# Altium footprint library CAP.PCBLIB: 47 footprints (part 1 of 3)
Each footprint in its own frame and in the unit in brackets; x right, y up, seen from the top. Pads: shape width x height; smd on the part's side, far side on the other; paste and mask are expansions set on the pad; w line width, h text height; cw(c..) or ccw(c..) is an arc to the next point about the centre after c.
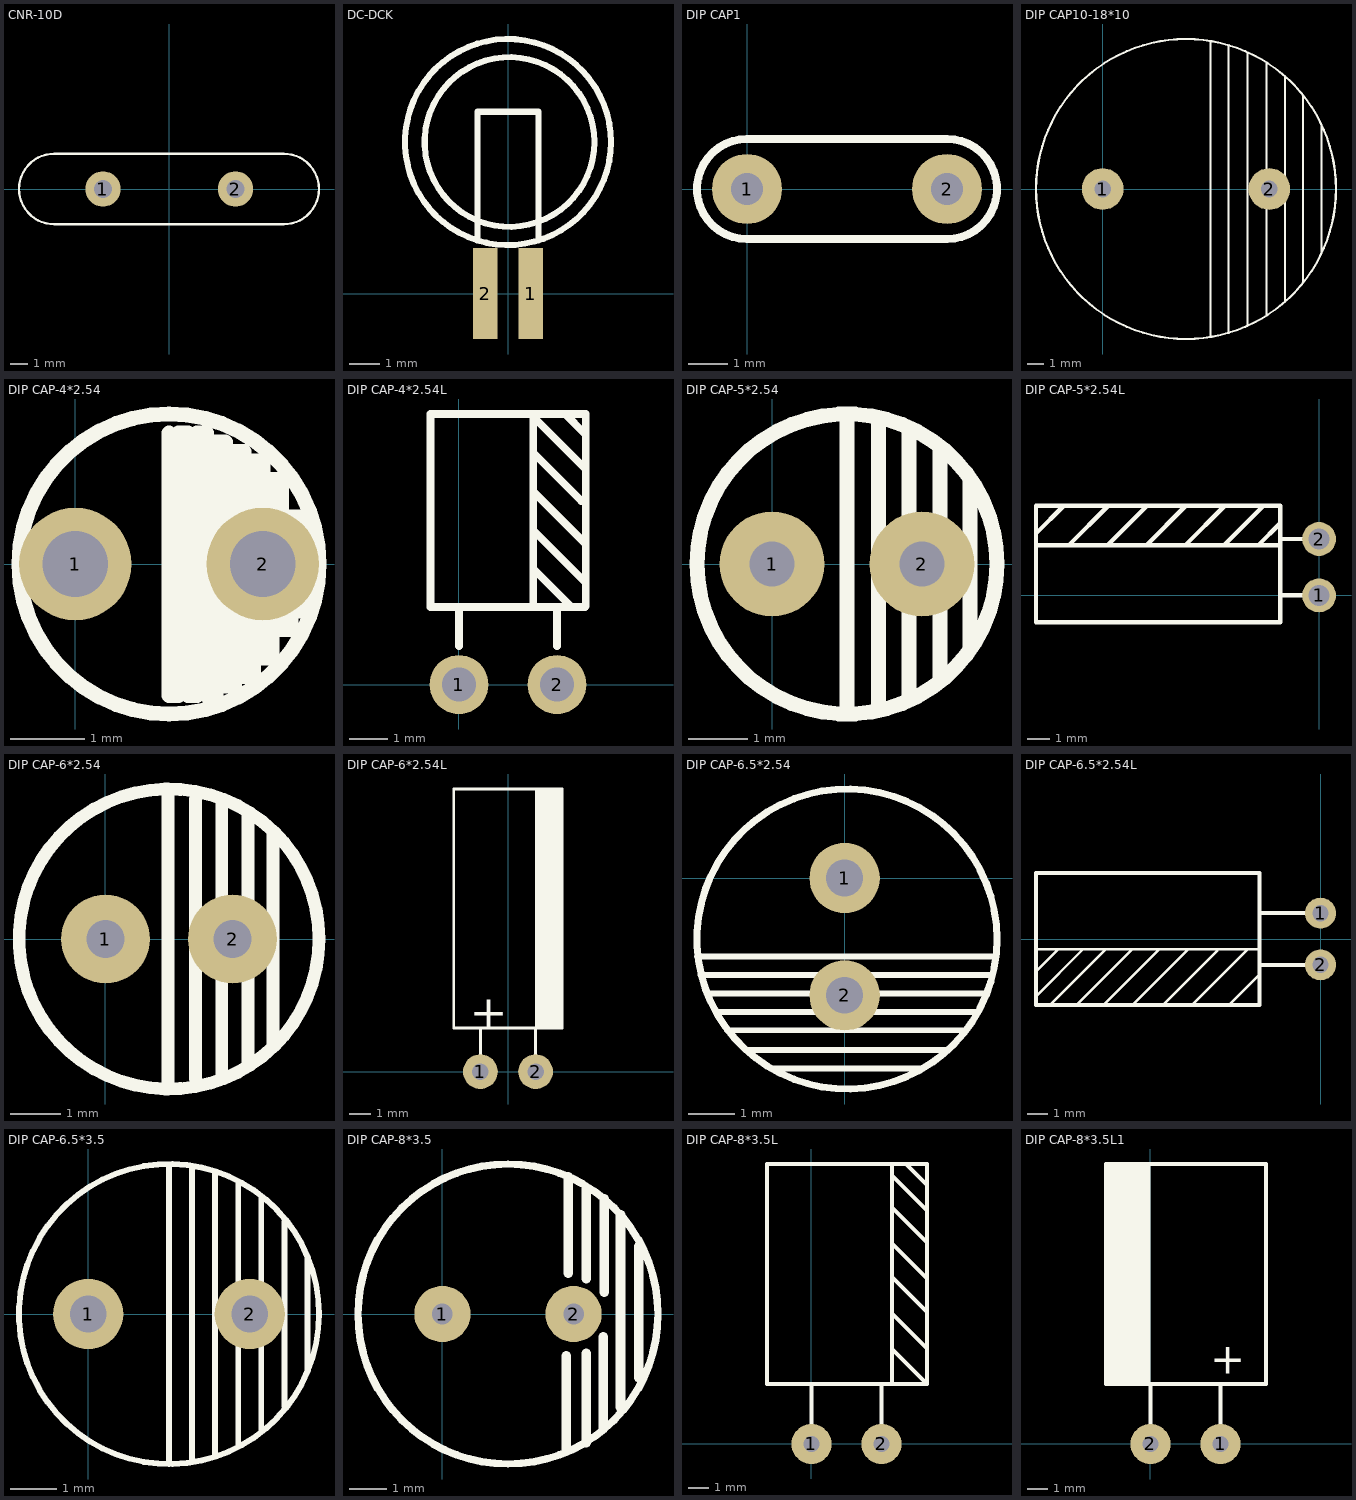
[diagram p0: the footprints below, top view; thin cyan lines are the x and y axes]

## CNR-10D [mm]
pads (2):
  round 2 hole 1: 1(-3.75,0) 2(3.75,0)
TopOverlay:
  lines w0.127: 6.475,-2 ccw(c6.475,0) 6.475,2 ; 6.5,-2 -6.5,-2 cw(c-6.5,0) -6.5,2 6.5,2

## DC-DCK [mm]
pads (2):
  rect 0.8x3 smd: 1(0.75,0) 2(-0.75,0)
TopOverlay:
  circle w0.2: c0.05,5 r2.8
  circle w0.2: c0,5 r3.4
  lines w0.2: -1,1.75 -1,6 1,6 1,1.75

## DIP CAP1 [mil]
pads (2):
  round 70 hole 32: 1(0,0) 2(200,0)
TopOverlay:
  lines w8: 0,-50 cw(c0,0) 0,50 200,50 cw(c200,0) 200,-50 0,-50

## DIP CAP10-18*10 [mm]
pads (2):
  round 2.5 hole 1: 1(0,0) 2(10,0)
TopOverlay:
  circle w0.127: c5,0 r9
  lines w0.127: 6.472,-8.871 6.472,8.871 ; 7.547,-8.622 7.547,8.597 ; 8.697,-8.222 8.697,8.172 ; 9.821,-7.597 9.821,7.597 ; 10.946,-6.772 10.946,6.772 ; 12.02,-5.648 12.02,5.598 ; 13.12,-3.873 13.12,3.798

## DIP CAP-4*2.54 [mil]
pads (2):
  round 60 hole 35: 1(0,0) 2(100,0)
TopOverlay:
  circle w8: c50,0 r80
  lines w8: 50,70 50,-70 55,-70 55,70 60,70 60,-70 65,-70 65,70 70,70 70,-70 75,-70 75,65 80,65 80,-65 85,-65 85,60 90,60 90,-60 95,-60 95,55 100,55 100,-50 105,-50 105,45 110,45 110,-35 115,-35 115,25 120,25 120,-25

## DIP CAP-4*2.54L [mil]
pads (2):
  round 60 hole 35: 1(0,0) 2(100,0)
TopOverlay:
  lines w7.87: 0,39.37 0,78.74 ; 75.79,79 75.79,272.9 129.27,219.42 ; 75.79,118.11 114.9,79 ; 75.79,157.48 129.27,104 ; 75.79,196.85 129.27,143.37 ; 75.79,236.22 125,187.01 ; 100,39.37 100,78.74 ; 108.27,275.85 128.21,255.91 ; 128.48,79 -29,79 -29,275.85 129.27,275.85 129.27,79.79

## DIP CAP-5*2.54 [mil]
pads (2):
  round 70 hole 30: 1(0,0) 2(100,0)
TopOverlay:
  circle w10: c50,0 r100
  lines w10: 50,-100 50,100 ; 70.84,-96.42 70.84,95.43 ; 91.5,-90.52 91.5,88.55 ; 112.16,-75.76 112.16,76.74 ; 131.84,-56.08 131.84,55.1

## DIP CAP-5*2.54L [mil]
pads (2):
  round 60 hole 37: 1(0,0) 2(0,100)
TopOverlay:
  lines w7.87: -501.97,88.58 -68.9,88.58 ; -501.97,109.84 -452.76,159.06 ; -444.49,88.58 -374.02,159.06 ; -375.59,88.58 -305.12,159.06 ; -306.69,88.58 -236.22,159.06 ; -237.8,88.58 -167.32,159.06 ; -168.9,88.58 -98.43,159.06 ; -108.27,88.58 -68.9,127.95 ; -68.9,100 0,100 ; -65.55,0 0,0 ; -501.97,-47.64 -68.9,-47.64 -68.9,159.06 -501.97,159.06 -501.97,-47.64

## DIP CAP-6*2.54 [mil]
pads (2):
  round 70 hole 30: 1(0,0) 2(100,0)
TopOverlay:
  circle w10: c50,0 r118.11
  lines w10: 49.21,-118.11 49.21,118.11 ; 70.84,-110.24 70.84,110.24 ; 91.5,-106.3 91.5,106.3 ; 112.16,-98.43 112.16,98.43 ; 131.84,-82.68 131.84,82.68

## DIP CAP-6*2.54L [mm]
pads (2):
  round 1.6 hole 0.762: 1(-1.27,0) 2(1.27,0)
TopOverlay:
  rectangle: 1.25,2 2.5,13
  lines w0.127: -1.27,0 -1.27,2 ; 1.27,0 1.27,2 ; -2.5,2 2.5,2 2.5,13 -2.5,13 -2.5,2
  text "+" at -1.75,2 h1.52

## DIP CAP-6.5*2.54 [mil]
pads (2):
  round 60 hole 31.5: 1(0,0) 2(0,-100)
TopOverlay:
  circle w6: c2,-52 r127.95
  lines w5: -125.93,-66.9 127.9,-66.9 ; -122.98,-82.64 124.95,-82.64 ; -117.08,-98.39 121.01,-98.39 ; -109.21,-114.13 113.14,-114.13 ; -100.35,-129.87 103.31,-129.87 ; -84.61,-146.59 87.56,-146.59 ; -61.98,-162.34 66.9,-162.34

## DIP CAP-6.5*2.54L [mil]
pads (2):
  round 60 hole 31.5: 1(0,50) 2(0,-50)
TopOverlay:
  lines w5: -551.18,-111.22 -459.65,-19.69 ; -551.18,-62.99 -507.87,-19.68 ; -551.18,-19.68 -118.11,-19.68 ; -523.62,-127.95 -415.35,-19.68 ; -472.44,-127.95 -364.17,-19.68 ; -420.28,-127.95 -312.99,-20.67 ; -364.17,-127.95 -255.91,-19.68 ; -305.12,-127.95 -199.8,-22.64 ; -249.02,-127.95 -140.75,-19.68 ; -177.17,-127.95 -118.11,-68.9
  lines w7.87: -118.11,50.2 -117.91,50 0,50 ; -117.91,-50 0,-50 ; -551.18,-127.95 -118.11,-127.95 -118.11,127.95 -551.18,127.95 -551.18,-127.95

## DIP CAP-6.5*3.5 [mil]
pads (2):
  round 60 hole 31.5: 1(0,0) 2(137.8,0)
TopOverlay:
  circle w5: c68.9,0 r127.95
  lines w5: 68.9,-127.9 68.9,126.92 ; 88.58,-124.95 88.58,123.97 ; 108.27,-121.01 108.27,120.08 ; 127.95,-112.2 127.95,112.2 ; 147.64,-100.35 147.64,100.35 ; 167.32,-78.74 167.32,78.74 ; 187.01,-47.24 187.01,47.24

## DIP CAP-8*3.5 [mm]
pads (2):
  round 1.5 hole 0.55: 1(0,0) 2(3.5,0)
TopOverlay:
  circle w0.2: c1.75,0 r4
  lines w0.254: 3.302,-3.658 3.302,-1.118 ; 3.353,1.092 3.353,3.658 ; 3.835,-3.429 3.835,-1.041 ; 3.835,0.94 3.835,3.327 ; 4.293,-3.048 4.293,-0.61 ; 4.318,0.584 4.318,3.073 ; 4.75,-2.489 4.75,2.642 ; 5.232,-1.702 5.232,1.803

## DIP CAP-8*3.5L [mm]
pads (2):
  round 2 hole 0.8: 1(0,0) 2(3.5,0)
TopOverlay:
  lines w0.2: 0,0 0,3 ; 3.5,0 3.5,3 ; 4.025,3 4.025,14 ; 4.025,4.75 5.775,3 ; 4.025,6.525 5.775,4.775 ; 4.025,8.35 5.775,6.6 ; 4.025,10.025 5.775,8.275 ; 4.025,11.825 5.775,10.075 ; 4.025,13.425 5.775,11.675 ; 4.725,14 5.775,12.95 ; 5.775,3 -2.225,3 -2.225,14 5.775,14 5.775,3

## DIP CAP-8*3.5L1 [mm]
pads (2):
  round 2 hole 0.8: 1(3.5,0) 2(0,0)
TopOverlay:
  rectangle: -2.225,3 0,14
  lines w0.2: 0,0 0,3 ; 3.5,0 3.5,3 ; -2.225,3 5.775,3 5.775,14 -2.225,14 -2.225,3
  text "+" at 3,3.5 h1.52